# Altium schematic symbol library MiscSch1.SchLib: 11 symbols
Pins are listed as number, name and electrical type; pins without a type are passive.

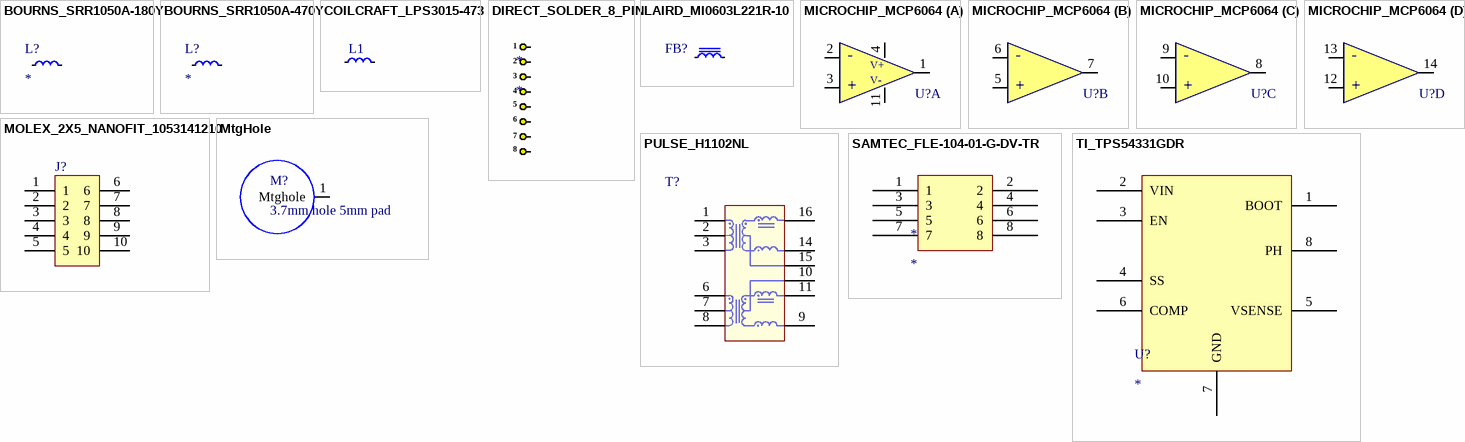
[diagram p0: symbols BOURNS_SRR1050A-180Y to TI_TPS54331GDR]

## BOURNS_SRR1050A-180Y
designator L?
FIXED IND 18UH 3.1A 51 MOHM SMD; Manufacturer: Bourns; Manufacturer Part Number: SRR1050A-180Y; Saturation Current: 3.2A; DC Resistance (DCR): 51mR; Inductance Tolerance: 30%; Supplier 1: Digi-Key; Supplier Part Number 1: SRR1050A-180YCT-ND; RoHS: Yes; Category: Fixed Inductors; Stock 1: 545; Pricing 1: 1=1.31000, 10=1.21900, 25=1.12520, 50=0.93780, 100=0.88150, 250=0.78772 (USD); Mount: Surface Mount; Inductance: 18uH; RMS Current (Irms): 3.1A; Packaging: Cut Tape; REACH SVHC: No SVHC; RoHS Compliant: Yes; ComponentLink1URL: https://www.bourns.com/docs/Product-Datasheets/SRR1050A.pdf?src-supplier=Digi-Key; ComponentLink1Description: https://www.bourns.com/docs/Product-Datasheets/SRR1050A.pdf?src-supplier=Digi-Key; ComponentLink2URL: http://www.farnell.com/datasheets/2113225.pdf?src-supplier=Element14; ComponentLink2Description: http://www.farnell.com/datasheets/2113225.pdf?src-supplier=Element14
footprint INDP100100X51N (Precision Wire Wound Inductor, 2-Leads, Body 10.00x10.00mm, IPC Medium Density)
pins: 1, 2

## BOURNS_SRR1050A-470Y
designator L?
FIXED IND 47UH 2A 127 MOHM SMD; Manufacturer: Bourns; Manufacturer Part Number: SRR1050A-470Y; DC Resistance (DCR): 127mR; Inductance Tolerance: 30%; Supplier 1: Digi-Key; Supplier Part Number 1: SRR1050A-470YCT-ND; RoHS: Yes; Category: Fixed Inductors; Stock 1: 2803; Pricing 1: 1=1.31000, 10=1.21900, 25=1.12520, 50=0.93780, 100=0.88150, 250=0.78772 (USD); Mount: Surface Mount; Inductance: 47uH; RMS Current (Irms): 2A; Saturation Current: 2A; Packaging: Cut Tape; REACH SVHC: No SVHC; RoHS Compliant: Yes; ComponentLink1URL: http://www.farnell.com/datasheets/2163193.pdf?src-supplier=Farnell; ComponentLink1Description: http://www.farnell.com/datasheets/2163193.pdf?src-supplier=Farnell; ComponentLink2URL: https://www.bourns.com/docs/Product-Datasheets/SRR1050A.pdf?src-supplier=Digi-Key; ComponentLink2Description: https://www.bourns.com/docs/Product-Datasheets/SRR1050A.pdf?src-supplier=Digi-Key; ComponentLink3URL: http://www.farnell.com/datasheets/2113225.pdf?src-supplier=Element14; ComponentLink3Description: http://www.farnell.com/datasheets/2113225.pdf?src-supplier=Element14
footprint INDP100100X51N (Precision Wire Wound Inductor, 2-Leads, Body 10.00x10.00mm, IPC Medium Density)
pins: 1, 2

## COILCRAFT_LPS3015-473
designator L1
COILCRAFT   LPS3015-473MRB   INDUCTOR, SHLD, 47UH, 20%, 0.3A, SMD; RMS Current (Irms): 300mA; Saturation Current: 380mA; DC Resistance (DCR): 1.55R; Supplier 1: Mouser; Supplier Part Number 1: 994-LPS3015-473MRB; Manufacturer: Coilcraft; Manufacturer Part Number: LPS3015-473MRB; RoHS: Yes; Category: Inductors; Mount: Surface Mount; Inductance Tolerance: 20%; Packaging: Cut Tape; Inductance: 47uH; REACH SVHC: No SVHC; RoHS Compliant: Yes; ComponentLink1URL: http://www.farnell.com/datasheets/1805321.pdf?src-supplier=Farnell; ComponentLink1Description: http://www.farnell.com/datasheets/1805321.pdf?src-supplier=Farnell; ComponentLink2URL: http://www.farnell.com/datasheets/1805321.pdf?src-supplier=Element14; ComponentLink2Description: http://www.farnell.com/datasheets/1805321.pdf?src-supplier=Element14
footprint IND_LPS3015-152MRB
pins: 1, 2

## DIRECT_SOLDER_8_PIN
designator *  (no BOM)
footprint 8_PIN_DIRECT_25mil_1.5mm
pins: 1, 2, 3, 4, 5, 6, 7, 8

## LAIRD_MI0603L221R-10
designator FB?, comment LAIRD MI0603L221R-10  (value not drawn)
LAIRD - MI0603L221R-10 - Ferrite Bead, 0603 [1608 Metric], 220 ohm, 2 A, MI Series, 0.05 ohm; Manufacturer: Laird Technologies; Grade: Commercial; Value: 220 Ohms @ 100 MHz; Current Rating: 2A; Number of Lines: 1; DC Resistance (DCR): 50mR; Impedance: 220R; Test Frequency: 100MHz; Shielding: Unshielded; Manufacturer Part Number: MI0603L221R-10; Package: Inductor, 0603; ComponentLink1Description: Datasheet; ComponentLink1URL: https://media.digikey.com/pdf/Data%20Sheets/Laird%20Technologies/EMI_Filtering_and_RF_Inductors.pdf; Category: Ferrite Beads; Status: Preliminary; Storage Temperature: -40 °C ~ 125 °C; Operating Temperature: -40 °C ~ 125 °C; Supplier 1: Mouser; Supplier Part Number 1: 875-MI0603L221R-10; RoHS: Yes; Stock 1: 2603; Pricing 1: 1=0.10000, 10=0.07000, 50=0.06400, 100=0.06400, 250=0.06000, 500=0.05600, 1000=0.05000, 4000=0.04800, 10000=0.04800 (USD); Mount: Surface Mount; Case/Package: 0603; Case Code (Metric): 1608; Case Code (Imperial): 0603; Weight: 0.000192oz; Core Material: Ferrite; Material: Ferrite; Min Operating Temperature: -40°C; Max Operating Temperature: 125°C; Packaging: Tape and Reel; Package Quantity: 1; Max Current Rating: 2A; Series: MI; Max DC Current: 2A; Termination: SMD/SMT; Length: 1.6mm; Width: 0.031inch; Height: 0.8mm; Depth: 0.8mm; REACH SVHC: Unknown; Lead Free: Lead Free; ComponentLink2URL: https://datasheet.ciiva.com/1013/mi0603l221r-10-1013287.pdf?src-supplier=Digi-Key; ComponentLink2Description: https://datasheet.ciiva.com/1013/mi0603l221r-10-1013287.pdf?src-supplier=Digi-Key; ComponentLink3URL: https://datasheet.ciiva.com/3082/mi0603l221r-10-c-vp-3082211.pdf?src-supplier=Avnet; ComponentLink3Description: https://datasheet.ciiva.com/3082/mi0603l221r-10-c-vp-3082211.pdf?src-supplier=Avnet; ComponentLink4URL: https://datasheet.ciiva.com/22650/1685986-22650407.pdf?src-supplier=Element14; ComponentLink4Description: https://datasheet.ciiva.com/22650/1685986-22650407.pdf?src-supplier=Element14
footprint INDC160X80X105L30N
pins: 1, 2

## MICROCHIP_MCP6064
designator U?, comment MCP6064  (value not drawn)
Microchip MCP6064-E/ST; Quad Op Amp; 0.73MHz CMOS; Rail to Rail; 3V; 5V; 14-Pin TSSOP; Min Supply Voltage: 1.8V; Max Supply Voltage: 6V; Voltage Gain: 115dB; Common Mode Rejection Ratio: 72dB; Gain Bandwidth Product: 730kHz; Number of Channels: 4; Output Current: 27mA; Slew Rate: 0.25V/µs; Nominal Supply Current: 60uA; Input Bias Current: 100pA; Input Offset Voltage (Vos): 150uV; Power Supply Rejection Ratio (PSRR): 70dB; Amplifier Type: GENERAL PURPOSE; ComponentLink1URL: http://www.microchip.com/mymicrochip/filehandler.aspx?ddocname=en528763; ComponentLink1Description: http://www.microchip.com/mymicrochip/filehandler.aspx?ddocname=en528763; Supplier 1: Digi-Key; Supplier Part Number 1: MCP6064-E/ST-ND; Manufacturer: Microchip; Manufacturer Part Number: MCP6064-E/ST; RoHS: Yes; Category: Amplifiers - Op Amps, Buffer, Instrumentation; Stock 1: 117; Pricing 1: 1=1.83000, 25=1.52640, 100=1.42500 (USD); Mount: Surface Mount; Case/Package: TSSOP; Number of Pins: 14; Min Operating Temperature: -40°C; Max Operating Temperature: 125°C; Package Quantity: 96; Packaging: Rail/Tube; Bandwidth: 730kHz; Unity Gain Bandwidth Product: 730kHz; Number of Circuits: 4; Operating Supply Current: 60uA; Output Current per Channel: 27mA; Number of Elements: 4; Number of Amplifiers: 4; Supply Current: 60uA; Technology: CMOS; Input Offset Voltage-Max: 150uV; Slew Rate-Nom: 0.25V/µs; Length: 5mm; Width: 4.4mm; Height: 1mm; Radiation Hardening: No; REACH SVHC: No SVHC; Lead Free: Lead Free; RoHS Compliant: Yes; ComponentLink2URL: https://datasheet.ciiva.com/8078/mcp6061-ds22189b-8078832.pdf?src-supplier=Element14; ComponentLink2Description: https://datasheet.ciiva.com/8078/mcp6061-ds22189b-8078832.pdf?src-supplier=Element14; ComponentLink3URL: https://datasheet.ciiva.com/1802/mcp6061-ds22189b-1802877.pdf?src-supplier=Digi-Key; ComponentLink3Description: https://datasheet.ciiva.com/1802/mcp6061-ds22189b-1802877.pdf?src-supplier=Digi-Key; ComponentLink4URL: https://datasheet.ciiva.com/11707/jp542225-11707116.pdf?src-supplier=Avnet; ComponentLink4Description: https://datasheet.ciiva.com/11707/jp542225-11707116.pdf?src-supplier=Avnet; ComponentLink5URL: https://datasheet.ciiva.com/5777/1062687-5777669.pdf?src-supplier=Farnell; ComponentLink5Description: https://datasheet.ciiva.com/5777/1062687-5777669.pdf?src-supplier=Farnell; ComponentLink6URL: https://datasheet.ciiva.com/16348/filehandler-aspxddocname-en542225-16348939.pdf?src-supplier=Future+Electronics; ComponentLink6Description: https://datasheet.ciiva.com/16348/filehandler-aspxddocname-en542225-16348939.pdf?src-supplier=Future+Electronics
footprint 14TSSOP65 (TSOP, 14-Leads, Body 5.1x4.5mm (max), Pitch 0.65mm, IPC High Density)
part A pins: 1, 2, 3, 4, 11
part B pins: 5, 6, 7
part C pins: 8, 9, 10
part D pins: 12, 13, 14
1 alternate drawing of the same symbol
part A text: -; V+; V-; +
part B text: -; +
part C text: -; +
part D text: -; +

## MOLEX_2X5_NANOFIT_1053141210
designator J?
Conn HDR 10 POS 2.5mm Solder RA Thru-Hole 10 Terminal 1 Port; Manufacturer: Molex; Manufacturer Part Number: 105314-1210; Connector Type: Header,Male Pin; Number of Positions: 10; Supplier 1: Digi-Key; Supplier Part Number 1: WM15162-ND; RoHS: Yes; Category: Headers and Wire Housings; Stock 1: 2469; Pricing 1: 1=2.84000, 10=2.49900, 120=1.98792, 960=1.64713, 4920=1.47673 (USD); Mount: Through Hole; Contact Plating: Gold; Contact Material: Brass; Contact Shape: Square; Insulation Material: Polymer; Insulation Color: Black; Min Operating Temperature: -40°C; Max Operating Temperature: 105°C; Fastening Type: Latch; Packaging: Tray; Number of Rows: 2; Termination: Solder; RoHS Compliant: Yes; ComponentLink1URL: https://www.molex.com/pdm_docs/ps/PS-105300-100-001.pdf?src-supplier=Digi-Key; ComponentLink1Description: https://www.molex.com/pdm_docs/ps/PS-105300-100-001.pdf?src-supplier=Digi-Key
footprint MOLEX_1053141210
pins: 1, 2, 3, 4, 5, 6, 7, 8, 9, 10

## MtgHole
designator M?, comment 3.7mm hole 5mm pad
footprint 3.7hole5pad (3.7mm hole with 5mm pad)
pins: 1 Mtghole

## PULSE_H1102NL
designator T?
Telecom Transformer 2(1:1) 0.65Ohm Prim. DCR 0.65Ohm Sec. DCR 16 Terminal Gull Wing SMD; Manufacturer: Pulse; Manufacturer Part Number: H1102NL; Shielding: Unshielded; Isolation Voltage: 1.5kV; Insertion Loss: -1.1dB; Return Loss: -11.5dB; DC Resistance (DCR): 650mR; Supplier 1: Digi-Key; Supplier Part Number 1: 553-1323-5-ND; RoHS: Yes; Category: Transformers; Stock 1: 978; Pricing 1: 1=5.63000, 10=4.55900, 25=3.68600, 50=3.45320, 100=3.29800, 250=3.20100, 500=3.10400, 1000=3.00700 (USD); Mount: Surface Mount; Case/Package: Module; Number of Pins: 16; Weight: 0.098767oz; Min Operating Temperature: 0°C; Max Operating Temperature: 70°C; Turns Ratio: 1:1; Lead/Base Style: Gull Wing; Packaging: Rail/Tube; Package Quantity: 40; Termination: SMD/SMT; Series: -; Length: 12.7mm; Width: 9.53m; Height: 6.09mm; Height - Seated (Max): 6.22mm; Depth: 9.53mm; Radiation Hardening: No; RoHS Compliant: Yes; Lead Free: Lead Free; ComponentLink1URL: https://datasheet.ciiva.com/2938/10-100base-tsingleportsmdmagnetics-rev2008-2938779.pdf?src-supplier=Digi-Key; ComponentLink1Description: https://datasheet.ciiva.com/2938/10-100base-tsingleportsmdmagnetics-rev2008-2938779.pdf?src-supplier=Digi-Key
footprint PULSE_HXXXX (SOP, 16-Leads, Body 12.70x7.11mm, Pitch 1.27mm, IPC Medium Density)
pins: 1, 2, 3, 6, 7, 8, 9, 10, 11, 14, 15, 16

## SAMTEC_FLE-104-01-G-DV-TR
designator *
CONN RCPT .05" 8POS DUAL SMD; Manufacturer: Samtec; Manufacturer Part Number: FLE-104-01-G-DV; Contact Resistance: 15mR; Number of Contacts: 8; Gender: Receptacle; Max Current Rating: 1.75A; Pitch: 1.27mm; Row Spacing: 0.05inch; Supplier 1: Digi-Key; Supplier Part Number 1: SAM1226-04-ND; RoHS: Yes; Category: Headers and Wire Housings; Stock 1: 413; Pricing 1: 1=1.50000, 10=1.35800, 25=1.27480, 50=1.21940, 100=1.16390, 250=1.05304, 500=0.96992 (USD); Mount: Surface Mount; Contact Plating: Gold; Contact Material: Bronze; Housing Color: Black; Housing Material: Polymer; Color: Black; Min Operating Temperature: -55°C; Max Operating Temperature: 125°C; Number of Rows: 2; Packaging: Bulk; Termination: Solder; Orientation: Straight; Connector Type: Receptacle; Number of Positions: 8; Series: FLE; Contact Type: Female Socket; Length: 5.19mm; Width: 3.33mm; Depth: 3.33mm; Radiation Hardening: No; REACH SVHC: No SVHC; Lead Free: Lead Free; ComponentLink1URL: https://datasheet.ciiva.com/747/fle-1xx-xx-xx-dv-x-mkt1-747009.pdf?src-supplier=Digi-Key; ComponentLink1Description: https://datasheet.ciiva.com/747/fle-1xx-xx-xx-dv-x-mkt1-747009.pdf?src-supplier=Digi-Key
footprint SAMTEC_FLE-104-01-G-DV-TR
pins: 1, 2, 3, 4, 5, 6, 7, 8

## TI_TPS54331GDR
designator U?
Conv DC-DC Single Step Down 3.5V to 28V 8-Pin SOIC T/R; Manufacturer: Texas Instruments; Manufacturer Part Number: TPS54331GDR; Output Current: 3A; Output Voltage: 25V; Switching Frequency: 570kHz; Number of Outputs: 1; Synchronous Rectifier: No; Quiescent Current: 110uA; Min Output Voltage: 800mV; Output Type: Adjustable; Supplier 1: Digi-Key; Supplier Part Number 1: 296-50099-1-ND; RoHS: Yes; Category: Voltage Regulators - Switching; Stock 1: 2585; Pricing 1: 1=1.85000, 10=1.66300, 25=1.56880, 100=1.33660, 250=1.25504, 500=1.09816, 1000=1.03600 (USD); Case/Package: D; Number of Pins: 8; Min Operating Temperature: -40°C; Max Operating Temperature: 150°C; Package Quantity: 2500; Series: SWIFT™, Eco-Mode™; Packaging: Tape and Reel; Max Output Current: 3A; Max Input Voltage: 28V; Min Input Voltage: 3.5V; Max Output Voltage: 25V; Operating Supply Voltage: 28V; Lead Free: Lead Free; RoHS Compliant: Yes; ComponentLink1URL: https://datasheet.ciiva.com/2034/tps54331-2034843.pdf?src-supplier=Digi-Key; ComponentLink1Description: https://datasheet.ciiva.com/2034/tps54331-2034843.pdf?src-supplier=Digi-Key; ComponentLink2URL: https://datasheet.ciiva.com/14378/tps54331-14378086.pdf?src-supplier=Avnet; ComponentLink2Description: https://datasheet.ciiva.com/14378/tps54331-14378086.pdf?src-supplier=Avnet
footprint SOIC127P600X175-8N (SOIC, 8-Leads, Body 4.91x3.90mm, Pitch 1.27mm, IPC Medium Density)
pins: 1 BOOT, 2 VIN, 3 EN, 4 SS, 5 VSENSE, 6 COMP, 7 GND, 8 PH